# Altium footprint library transform.PcbLib: 36 footprints (part 2 of 3)
Each footprint in its own frame and in the unit in brackets; x right, y up, seen from the top. Pads: shape width x height; smd on the part's side, far side on the other; paste and mask are expansions set on the pad; w line width, h text height; cw(c..) or ccw(c..) is an arc to the next point about the centre after c.
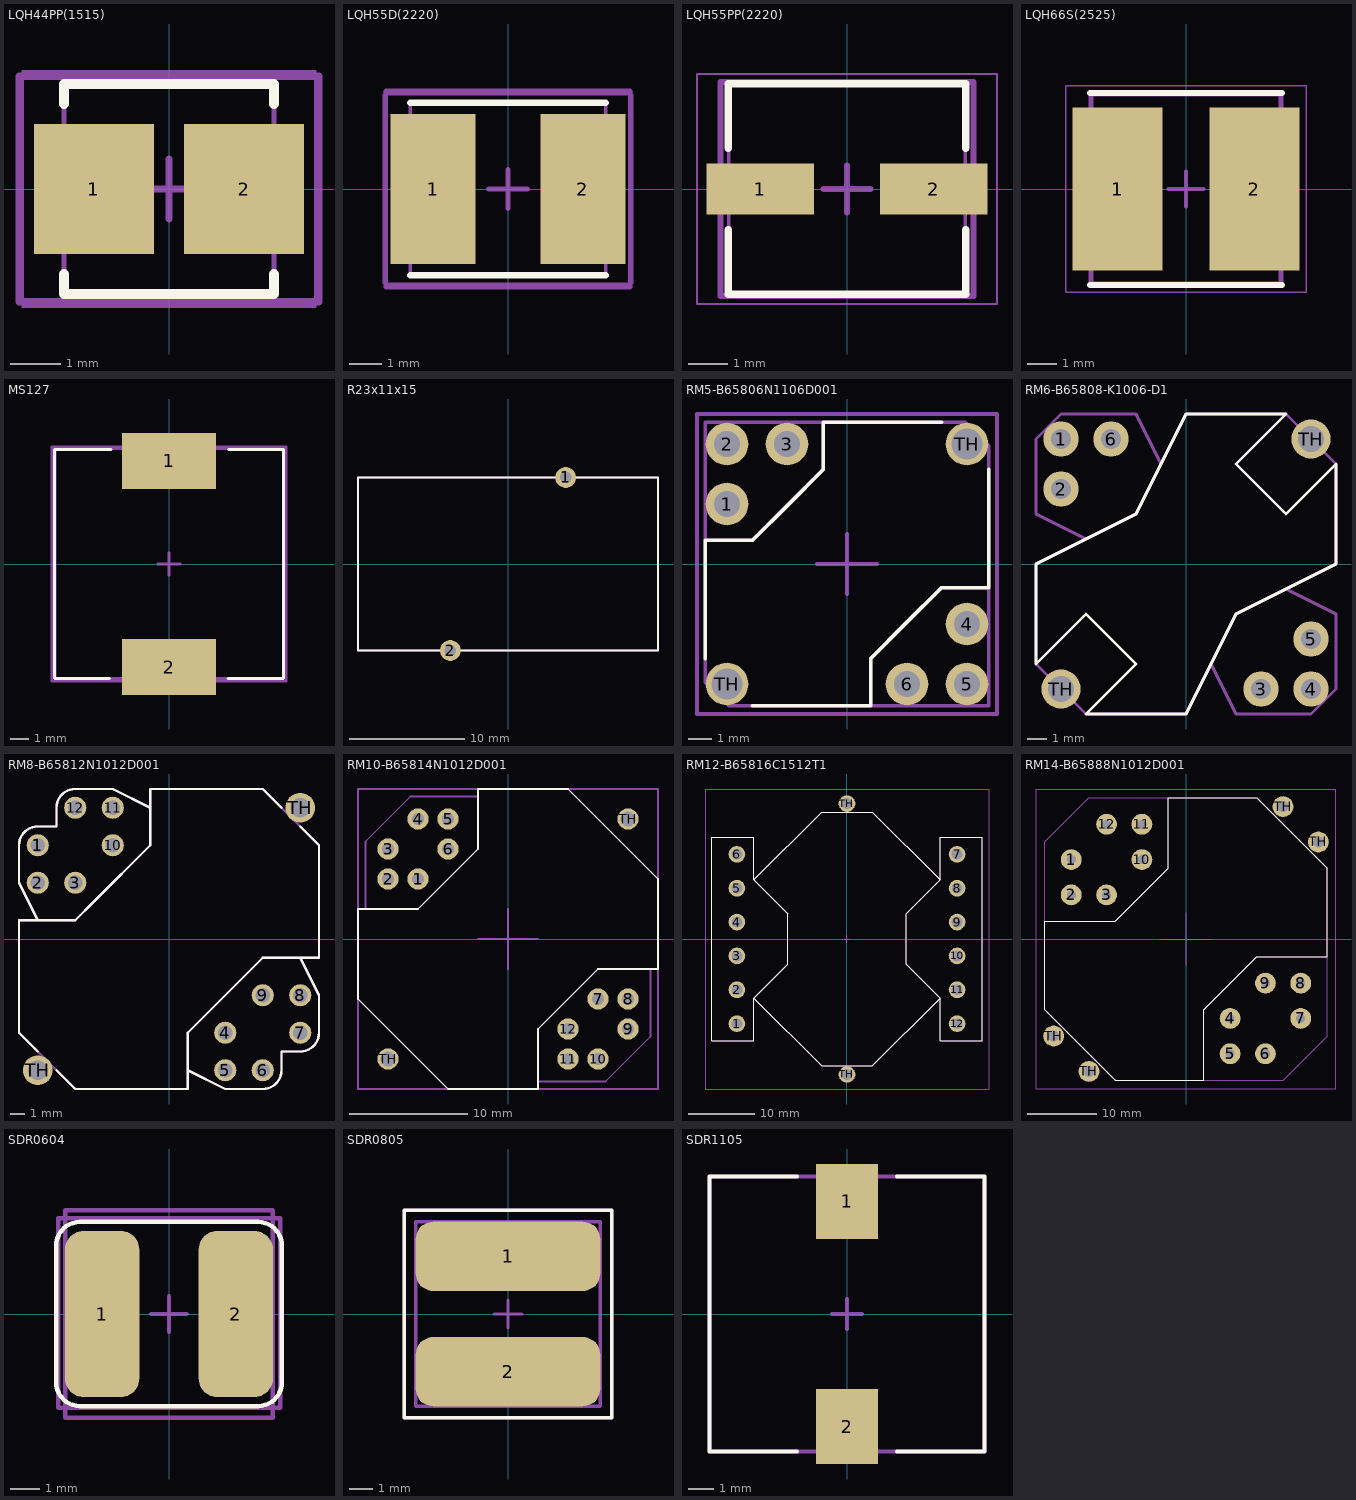
[diagram p1: the footprints below, top view; thin cyan lines are the x and y axes]

## LQH44PP(1515) [mm] "LQH44PP Series 1515 Case"
height 1.7
pads (2):
  rect 2.4x2.6 smd: 1(-1.5,0) 2(1.5,0)
Top Overlay:
  lines w0.2: -2.1,-1.7 -2.1,-2.1 2.1,-2.1 2.1,-1.7 ; -2.1,1.7 -2.1,2.1 2.1,2.1 2.1,1.7
Top Courtyard:
  lines w0.1: -2.1,-2.1 2.1,-2.1 2.1,2.1 -2.1,2.1 -2.1,-2.1
Top 3D Body:
  lines w0.05: -2.925,-2.35 2.925,-2.35 2.925,2.35 -2.925,2.35 -2.925,-2.35
  lines w0.1: -0.5,0 0.5,0 ; 0,-0.5 0,0.5
Mechanical 15:
  lines w0.15: -0.6,0 0,0 ; 0,-0.6 0,0 ; 0,0.6 0,0 ; 0.6,0 0,0 ; -3,-2.25 3,-2.25 3,2.25 -3,2.25 -3,-2.25
3D body: height 1.7, standoff 0, extent -2.1,-2.1 2.1,2.1

## LQH55D(2220) [mm] "LQH55D Series 2220"
height 5
pads (2):
  rect 2.6x4.6 smd: 1(-2.3,0) 2(2.3,0)
Top Overlay:
  lines w0.2: -3,-2.65 3,-2.65 ; -3,2.65 3,2.65
Top Courtyard:
  lines w0.1: -3,-2.65 3,-2.65 3,2.65 -3,2.65 -3,-2.65
Top 3D Body:
  lines w0.05: -3.825,-2.9 3.825,-2.9 3.825,2.9 -3.825,2.9 -3.825,-2.9
  lines w0.1: -0.5,0 0.5,0 ; 0,-0.5 0,0.5
Mechanical 15:
  lines w0.15: -0.6,0 0,0 ; 0,-0.6 0,0 ; 0,0.6 0,0 ; 0.6,0 0,0 ; -3.75,-3 -3.75,3 3.75,3 3.75,-3 -3.75,-3
3D body: height 5, standoff 0, extent -3,-2.65 3,2.65

## LQH55PP(2220) [mm] "LQH55PP Series 2220 Case"
height 2
pads (2):
  rect 2.75x1.3 smd: 1(-2.225,0) 2(2.225,0)
Top Overlay:
  lines w0.2: -3.05,-1.05 -3.05,-2.7 3.05,-2.7 3.05,-1.05 ; -3.05,1.05 -3.05,2.7 3.05,2.7 3.05,1.05
Top Courtyard:
  lines w0.1: -3.035,-2.7 3.035,-2.7 3.035,2.7 -3.035,2.7 -3.035,-2.7
Top 3D Body:
  lines w0.05: -3.85,-2.95 3.85,-2.95 3.85,2.95 -3.85,2.95 -3.85,-2.95
  lines w0.1: -0.5,0 0.5,0 ; 0,-0.5 0,0.5
Mechanical 15:
  lines w0.15: -0.6,0 0,0 ; 0,-0.6 0,0 ; 0,0.6 0,0 ; 0.6,0 0,0 ; -3.25,-2.75 3.25,-2.75 3.25,2.75 -3.25,2.75 -3.25,-2.75
3D body: height 2, standoff 0, extent -3.035,-2.7 3.035,2.7

## LQH66S(2525) [mm] "LQH66S Series 2525 Case"
height 5
pads (2):
  rect 3.1x5.6 smd: 1(-2.35,0) 2(2.35,0)
Top Overlay:
  lines w0.2: -3.3,-3.3 3.3,-3.3 ; -3.3,3.3 3.3,3.3
Top Courtyard:
  lines w0.1: -3.3,-3.3 3.3,-3.3 3.3,3.3 -3.3,3.3 -3.3,-3.3
Top 3D Body:
  lines w0.05: -4.125,-3.55 4.125,-3.55 4.125,3.55 -4.125,3.55 -4.125,-3.55
  lines w0.1: -0.5,0 0.5,0 ; 0,-0.5 0,0.5
Mechanical 15:
  lines w0.15: -0.6,0 0,0 ; 0,-0.6 0,0 ; 0,0.6 0,0 ; 0.6,0 0,0 ; -3.25,-3.25 3.25,-3.25 3.25,3.25 -3.25,3.25 -3.25,-3.25
3D body: height 5, standoff 0, extent -3.3,-3.3 3.3,3.3

## MS127 [mm]
height 7
pads (2):
  rect 5x3 smd: 1(0,5.5) 2(0,-5.5)
Top Overlay:
  lines w0.15: -3.175,-6.1 -6.1,-6.1 -6.1,6.1 -3.1,6.1 ; 3.15,-6.1 6.1,-6.1 6.1,6.1 3.175,6.1
Mechanical 15:
  lines w0.15: -0.6,0 0,0 ; 0,-0.6 0,0 ; 0,0.6 0,0 ; 0.6,0 0,0 ; -6.25,-6.25 6.25,-6.25 6.25,6.25 -6.25,6.25 -6.25,-6.25
Mechanical 29:
  lines w0.15: -6.075,-6.1 6.1,-6.1 6.1,6.15 -6.075,6.15 -6.075,-6.1
3D body "User Library-Inductor SRR1280 Series.STEP": height 7.51, standoff 0, extent -6.1,-6.2 6.1,6

## PCBComponent_1 [mm]

## R23x11x15 [mm]
height 26
pads (2):
  round 1.8 hole 1 unplated: 1(5,7.5) 2(-5,-7.5)
Top Overlay:
  lines w0.15: -13,-7.5 13,-7.5 13,7.5 -13,7.5 -13,-7.5
Mechanical 29:
  lines w0.15: -13,-7.5 -13,7.5 13,7.5 13,-7.5 -13,-7.5

## RM5-B65806N1106D001 [mm]
height 12
pads (8):
  round 1.8 hole 1.1: 1(-5.08,2.54) 2(-5.08,5.08) 3(-2.54,5.08) 4(5.08,-2.54) 5(5.08,-5.08) 6(2.54,-5.08)
  round 1.8 hole 1.3: TH(-5.08,-5.08) TH(5.08,5.08)
Top Overlay:
  lines w0.15: -6,-4 -6,1 -4,1 -2.5,2.5 -1,4 -1,6 4,6 ; -4,-6 1,-6 1,-4 2.5,-2.5 4,-1 6,-1 6,4
Mechanical 15:
  lines w0.15: -1.27,0 1.27,0 ; 0,-1.27 0,1.27 ; -6.35,-6.35 6.35,-6.35 6.35,6.35 -6.35,6.35 -6.35,-6.35
Mechanical 29:
  lines w0.15: -6,1 -4,1 -1,4 -1,6 ; -6,1 -6,-5 -5,-6 1,-6 ; -6,1 -6,6 -1,6 ; -1,6 5,6 6,5 6,-1 ; 1,-6 1,-4 4,-1 6,-1 ; 1,-6 6,-6 6,-1
3D body: height 3, standoff -3, extent -5.576,4.581 -4.58,5.579
3D body: height 3, standoff -3, extent -5.576,2.041 -4.58,3.039
3D body: height 3, standoff -3, extent -3.036,4.581 -2.04,5.579
3D body: height 3, standoff -3, extent 4.584,-3.039 5.58,-2.041
3D body: height 3, standoff -3, extent 4.584,-5.579 5.58,-4.581
3D body: height 3, standoff -3, extent 2.044,-5.579 3.04,-4.581
3D body: height 12, standoff 0.5, extent -6,-6 6,6
3D body: height 2, standoff 1.5, extent -6,-6 6,6

## RM6-B65808-K1006-D1 [mm]
height 15
pads (8):
  round 1.8 hole 1: 1(-6.35,6.35) 2(-6.35,3.81) 3(3.81,-6.35) 4(6.35,-6.35) 5(6.35,-3.81) 6(-3.81,6.35)
  round 2 hole 1.3: TH(-6.35,-6.35) TH(6.35,6.35)
Top Overlay:
  lines w0.15: -7.62,-5.08 -7.62,0 -2.54,2.54 0,7.62 5.08,7.62 2.54,5.08 5.08,2.54 7.62,5.08 7.62,0 2.54,-2.54 0,-7.62 -5.08,-7.62 -2.54,-5.08 -5.08,-2.54 -7.62,-5.08
Mechanical 29:
  lines w0.15: -5.08,1.27 -7.62,2.54 -7.62,6.35 -6.35,7.62 -2.54,7.62 -1.27,5.08 ; 1.27,-5.08 2.54,-7.62 3.81,-7.62 6.35,-7.62 7.62,-6.35 7.62,-2.54 5.08,-1.27 ; -7.62,-5.08 -7.62,0 -2.54,2.54 0,7.62 5.08,7.62 7.62,5.08 7.62,0 2.54,-2.54 0,-7.62 -5.08,-7.62 -7.62,-5.08
3D body "RM6.STEP": height 12.6, standoff -4.67, extent -7.842,-7.842 7.843,7.843

## RM8-B65812N1012D001 [mm]
height 17
pads (14):
  round 1.5 hole 1: 1(-8.89,6.35) 2(-8.89,3.81) 3(-6.35,3.81) 4(3.81,-6.35) 5(3.81,-8.89) 6(6.35,-8.89) 7(8.89,-6.35) 8(8.89,-3.81) 9(6.35,-3.81) 10(-3.81,6.35) 11(-3.81,8.89) 12(-6.35,8.89)
  round 2 hole 1.3: TH(-8.89,-8.89) TH(8.89,8.89)
Top Overlay:
  lines w0.15: -8.89,-7.62 -10.16,-6.35 -10.16,1.27 -6.35,1.27 -5.08,2.54 -1.27,6.35 -1.27,10.16 6.35,10.16 7.62,8.89 ; -8.89,1.27 -10.16,3.81 -10.16,6.35 cw(c-8.89,6.35) -8.89,7.62 -7.62,7.62 -7.62,8.89 cw(c-6.35,8.89) -6.35,10.16 -3.81,10.16 -1.27,8.89 ; -7.62,-8.89 -6.35,-10.16 1.27,-10.16 1.27,-6.35 6.35,-1.27 10.16,-1.27 10.16,5.08 10.16,6.35 8.89,7.62 ; 1.27,-8.89 3.81,-10.16 6.35,-10.16 ccw(c6.35,-8.89) 7.62,-8.89 7.62,-7.62 8.89,-7.62 ccw(c8.89,-6.35) 10.16,-6.35 10.16,-3.81 8.89,-1.27
Mechanical 29:
  lines w0.15: -8.89,1.27 -10.16,3.81 -10.16,6.35 cw(c-8.89,6.35) -8.89,7.62 -7.62,7.62 -7.62,8.89 cw(c-6.35,8.89) -6.35,10.16 -3.81,10.16 -1.27,8.89 ; 1.27,-8.89 3.81,-10.16 6.35,-10.16 ccw(c6.35,-8.89) 7.62,-8.89 7.62,-7.62 8.89,-7.62 ccw(c8.89,-6.35) 10.16,-6.35 10.16,-3.81 8.89,-1.27 ; -10.16,-6.35 -7.62,-8.89 -6.35,-10.16 1.27,-10.16 1.27,-6.35 6.35,-1.27 10.16,-1.27 10.16,5.08 10.16,6.35 7.62,8.89 6.35,10.16 -1.27,10.16 -1.27,6.35 -5.08,2.54 -6.35,1.27 -10.16,1.27 -10.16,-6.35
3D body "RM8.STEP": height 16.75, standoff -3.07, extent -10.51,-10.51 10.512,10.51

## RM10-B65814N1012D001 [mm]
pads (14):
  round 1.8 hole 1: 1(-7.62,5.08) 2(-10.16,5.08) 3(-10.16,7.62) 4(-7.62,10.16) 5(-5.08,10.16) 6(-5.08,7.62) 7(7.62,-5.08) 8(10.16,-5.08) 9(10.16,-7.62) 10(7.62,-10.16) 11(5.08,-10.16) 12(5.08,-7.62)
  round 1.8 hole 1.3: TH(-10.16,-10.16) TH(10.16,10.16)
Top Overlay:
  lines w0.15: -12.7,-5.08 -12.7,2.54 -7.62,2.54 -2.54,7.62 -2.54,12.7 5.08,12.7 12.7,5.08 12.7,-2.54 7.62,-2.54 2.54,-7.62 2.54,-12.7 -5.08,-12.7 -12.7,-5.08
Mechanical 15:
  lines w0.15: -2.54,0 2.54,0 ; 0,-2.54 0,2.54 ; -12.7,-12.7 12.7,-12.7 12.7,12.7 -12.7,12.7 -12.7,-12.7
Mechanical 29:
  lines w0.15: -12.065,2.54 -12.065,8.255 -8.255,12.065 -2.54,12.065 ; 2.54,-12.065 8.255,-12.065 12.065,-8.255 12.065,-2.54 ; -12.7,-5.08 -12.7,2.54 -7.62,2.54 -2.54,7.62 -2.54,12.7 5.08,12.7 12.7,5.08 12.7,-2.54 7.62,-2.54 2.54,-7.62 2.54,-12.7 -5.08,-12.7 -12.7,-5.08
3D body: height 2, standoff 1.5, extent -9.08,5.08 -3.175,12.065
3D body: height 2, standoff 1.5, extent 3.175,-12.065 9.079,-5.08
3D body: height 2, standoff 1.5, extent 5.08,-9.08 12.065,-3.175
3D body: height 19, standoff 0.5, extent -12.7,-12.7 12.7,12.7
3D body: height 4, standoff -3, extent -10.458,4.781 -9.86,5.379
3D body: height 4, standoff -3, extent -10.458,7.321 -9.86,7.919
3D body: height 4, standoff -3, extent -7.918,9.861 -7.32,10.459
3D body: height 4, standoff -3, extent -5.378,9.861 -4.78,10.459
3D body: height 4, standoff -3, extent -5.378,7.321 -4.78,7.919
3D body: height 4, standoff -3, extent -7.918,4.781 -7.32,5.379
3D body: height 4, standoff -3, extent 7.322,-5.379 7.92,-4.781
3D body: height 4, standoff -3, extent 9.862,-5.379 10.46,-4.781
3D body: height 4, standoff -3, extent 9.862,-7.919 10.46,-7.321
3D body: height 4, standoff -3, extent 7.322,-10.459 7.92,-9.861
3D body: height 4, standoff -3, extent 4.782,-10.459 5.38,-9.861
3D body: height 4, standoff -3, extent 4.782,-7.919 5.38,-7.321
3D body: height 2, standoff 1.5, extent -12.065,3.175 -5.08,9.079

## RM12-B65816C1512T1 [mm]
pads (14):
  round 2.5 hole 1.6: 1(-16.51,-12.7) 2(-16.51,-7.62) 3(-16.51,-2.54) 4(-16.51,2.54) 5(-16.51,7.62) 6(-16.51,12.7) 7(16.51,12.7) 8(16.51,7.62) 9(16.51,2.54) 10(16.51,-2.54) 11(16.51,-7.62) 12(16.51,-12.7) TH(0,-20.32) TH(0,20.32)
Top Overlay:
  lines w0.15: -13.97,-8.89 -13.97,-15.24 -16.51,-15.24 -20.32,-15.24 -20.32,0 -20.32,15.24 -16.51,15.24 -13.97,15.24 -13.97,8.89 ; -13.97,-8.89 -8.89,-3.81 -8.89,0 -8.89,3.81 -13.97,8.89 ; -13.97,-8.89 -3.81,-19.05 0,-19.05 3.81,-19.05 13.97,-8.89 ; -13.97,8.89 -3.81,19.05 0,19.05 3.81,19.05 13.97,8.89 ; 13.97,-8.89 13.97,-12.7 13.97,-15.24 20.32,-15.24 20.32,0 20.32,15.24 16.51,15.24 13.97,15.24 13.97,8.89 ; 13.97,-8.89 8.89,-3.81 8.89,0 8.89,3.81 13.97,8.89
Mechanical 15:
  lines w0.15: -0.6,0 0,0 ; 0,-0.6 0,0 ; 0,0.6 0,0 ; 0.6,0 0,0 ; -21.25,-22.5 21.25,-22.5 21.25,22.5 -21.25,22.5 -21.25,-22.5
Mechanical 29:
  lines w0.15: -13.97,-8.89 -8.89,-3.81 -8.89,0 -8.89,3.81 -13.97,8.89 ; -13.97,-8.89 -13.97,-15.24 -16.51,-15.24 -20.32,-15.24 -20.32,0 -20.32,15.24 -16.51,15.24 -13.97,15.24 -13.97,8.89 ; -13.97,-8.89 -3.81,-19.05 0,-19.05 3.81,-19.05 13.97,-8.89 ; -13.97,8.89 -3.81,19.05 0,19.05 3.81,19.05 13.97,8.89 ; 13.97,-8.89 13.97,-12.7 13.97,-15.24 20.32,-15.24 20.32,0 20.32,15.24 16.51,15.24 13.97,15.24 13.97,8.89 ; 13.97,-8.89 8.89,-3.81 8.89,0 8.89,3.81 13.97,8.89
3D body: height 2.5, standoff 1.5, extent 15.32,-13.199 20.32,-12.201
3D body: height 2.5, standoff 1.5, extent 15.32,-8.119 20.32,-7.121
3D body: height 2.5, standoff 1.5, extent 15.32,-3.039 20.32,-2.041
3D body: height 2.5, standoff 1.5, extent 15.32,2.041 20.32,3.039
3D body: height 2.5, standoff 1.5, extent 15.32,7.121 20.32,8.119
3D body: height 2.5, standoff 1.5, extent 15.32,12.201 20.32,13.199
3D body: height 2.5, standoff 1.5, extent -20.32,12.201 -15.32,13.199
3D body: height 2.5, standoff 1.5, extent -20.32,7.121 -15.32,8.119
3D body: height 2.5, standoff 1.5, extent -20.32,2.041 -15.32,3.039
3D body: height 2.5, standoff 1.5, extent -20.32,-3.039 -15.32,-2.041
3D body: height 2.5, standoff 1.5, extent -20.32,-8.119 -15.32,-7.121
3D body: height 2.5, standoff 1.5, extent -20.32,-13.199 -15.32,-12.201
3D body: height 22, standoff 3, extent -13,-12.996 13,12.997
3D body: height 25, standoff 0.5, extent -13.97,-19.05 13.97,19.05
3D body: height 5, standoff 0.5, extent -17.78,-15.24 17.78,15.24
3D body: height 25.5, standoff 0, extent -3.81,17.78 3.81,20.32
3D body: height 25.5, standoff 0, extent -3.81,-20.32 3.81,-17.78
3D body: height 0.2, standoff -4.8, extent 16.014,12.201 17.01,13.199
3D body: height 0.2, standoff -4.8, extent 16.014,7.121 17.01,8.119
3D body: height 0.2, standoff -4.8, extent 16.014,2.041 17.01,3.039
3D body: height 0.2, standoff -4.8, extent 16.014,-3.039 17.01,-2.041
3D body: height 0.2, standoff -4.8, extent 16.014,-8.119 17.01,-7.121
3D body: height 0.2, standoff -4.8, extent 16.014,-13.199 17.01,-12.201
3D body: height 0.2, standoff -4.8, extent -17.006,12.201 -16.01,13.199
3D body: height 0.2, standoff -4.8, extent -17.006,7.121 -16.01,8.119
3D body: height 0.2, standoff -4.8, extent -17.006,2.041 -16.01,3.039
3D body: height 0.2, standoff -4.8, extent -17.006,-3.039 -16.01,-2.041
3D body: height 0.2, standoff -4.8, extent -17.006,-8.119 -16.01,-7.121
3D body: height 0.2, standoff -4.8, extent -17.006,-13.199 -16.01,-12.201

## RM14-B65888N1012D001 [mm]
height 30
pads (16):
  round 3 hole 1.3: 1(-16.51,11.43) 2(-16.51,6.35) 3(-11.43,6.35) 4(6.35,-11.43) 5(6.35,-16.51) 6(11.43,-16.51) 7(16.51,-11.43) 8(16.51,-6.35) 9(11.43,-6.35) 10(-6.35,11.43) 11(-6.35,16.51) 12(-11.43,16.51)
  round 3 hole 1.6: TH(-19.05,-13.97) TH(-13.97,-19.05) TH(13.97,19.05) TH(19.05,13.97)
Top Overlay:
  lines w0.15: -20.32,-10.16 -20.32,2.54 -10.16,2.54 -2.54,10.16 -2.54,20.32 10.16,20.32 20.32,10.16 20.32,-2.54 10.16,-2.54 2.54,-10.16 2.54,-20.32 -10.16,-20.32 -20.32,-10.16
Mechanical 15:
  lines w0.15: -3.81,0 3.81,0 ; 0,-3.81 0,3.81 ; -21.59,-21.59 21.59,-21.59 21.59,21.59 -21.59,21.59 -21.59,-21.59
Mechanical 29:
  lines w0.15: -20.32,2.54 -20.32,13.97 -13.97,20.32 -2.54,20.32 ; -20.32,2.54 -20.32,-10.16 -10.16,-20.32 2.54,-20.32 ; -20.32,2.54 -10.16,2.54 -2.54,10.16 -2.54,20.32 ; -2.54,20.32 10.16,20.32 20.32,10.16 20.32,-2.54 ; 2.54,-20.32 13.97,-20.32 20.32,-13.97 20.32,-2.54 ; 2.54,-20.32 2.54,-10.16 10.16,-2.54 20.32,-2.54
3D body: height 25, standoff 5, extent -14,-13.996 14,13.996
3D body: height 30, standoff 0.5, extent -20.32,-20.32 20.32,20.32

## SDR0604 [mm]
pads (2):
  rrect50% 2.5x5.6 smd: 1(-2.25,0) 2(2.25,0)
Top Overlay:
  lines w0.15: -3.8,-2.3 ccw(c-3,-2.3) -3,-3.1 3,-3.1 ccw(c3,-2.3) 3.8,-2.3 3.8,2.3 ccw(c3,2.3) 3,3.1 -3,3.1 ccw(c-3,2.3) -3.8,2.3 -3.8,-2.3
Mechanical 15:
  lines w0.15: -0.6,0 0,0 ; 0,-0.6 0,0 ; 0,0.6 0,0 ; 0.6,0 0,0 ; -3.5,-3.5 -3.5,3.5 3.5,3.5 3.5,-3.5 -3.5,-3.5
Mechanical 29:
  lines w0.15: -3.725,-3.15 -3.725,3.225 3.75,3.225 3.75,-3.15 -3.725,-3.15
3D body "User Library-SDR0604.STEP": height 4.55, standoff 0, extent -2.729,-2.825 2.779,2.775

## SDR0805 [mm]
height 5.5
pads (2):
  rrect50% 8x3 smd: 1(0,2.5) 2(0,-2.5)
Top Overlay:
  lines w0.15: -4.5,-4.5 -4.5,4.5 4.5,4.5 4.5,-4.5 -4.5,-4.5
Mechanical 15:
  lines w0.15: -0.6,0 0,0 ; 0,-0.6 0,0 ; 0,0.6 0,0 ; 0.6,0 0,0 ; -4.5,-4.5 4.5,-4.5 4.5,4.5 -4.5,4.5 -4.5,-4.5
Mechanical 29:
  lines w0.15: -4,-4 -4,4 4,4 4,-4 -4,-4
3D body: height 5.8, standoff 0.5, extent -3.9,-3.899 3.9,3.899

## SDR1105 [mm]
pads (2):
  rect 2.5x3 smd: 1(0,4.5) 2(0,-4.5)
Top Overlay:
  lines w0.15: -2,-5.5 -5.5,-5.5 -5.5,5.5 -2,5.5 ; 2,-5.5 5.5,-5.5 5.5,5.5 2,5.5
Mechanical 15:
  lines w0.15: -0.6,0 0,0 ; 0,-0.6 0,0 ; 0,0.6 0,0 ; 0.6,0 0,0 ; -5.5,-5.5 5.5,-5.5 5.5,5.5 -5.5,5.5 -5.5,-5.5
Mechanical 29:
  lines w0.15: -5.5,-5.5 5.5,-5.5 5.5,5.5 -5.5,5.5 -5.5,-5.5
3D body: height 5.3, standoff 0.5, extent -5,-4.998 5,4.999
3D body: height 1.5, standoff 0.5, extent -5,-4.998 5,4.999